# Altium footprint library 555.PcbLib: 1 footprints
Each footprint in its own frame and in the unit in brackets; x right, y up, seen from the top. Pads: shape width x height; smd on the part's side, far side on the other; paste and mask are expansions set on the pad; w line width, h text height; cw(c..) or ccw(c..) is an arc to the next point about the centre after c.
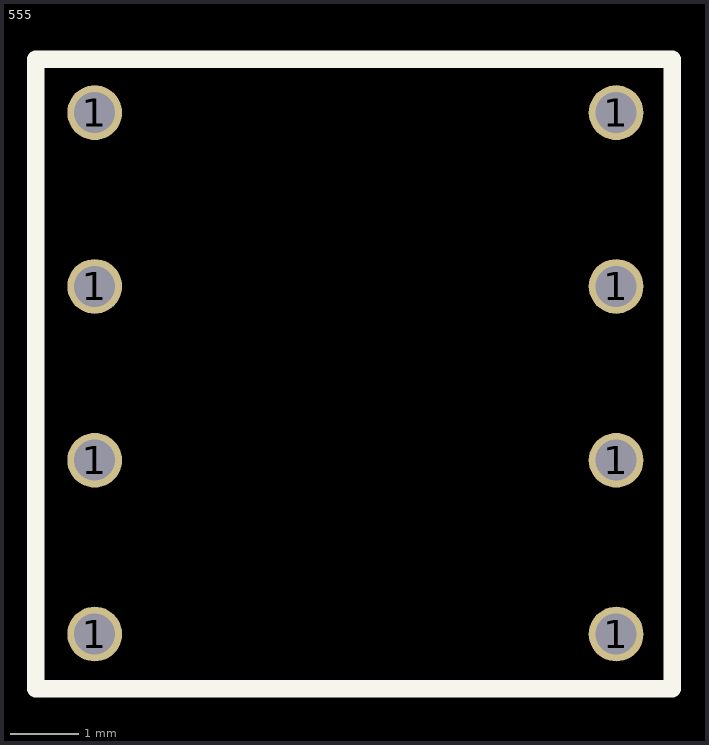
[diagram p0: the footprint, top view; thin cyan lines are the x and y axes]

## 555 [mm]
pads (8):
  round 0.8 hole 0.6: 1(-1234.44,-1231.9) 1(-1234.44,-1229.36) 1(-1234.44,-1226.82) 1(-1234.44,-1224.28) 1(-1226.82,-1231.9) 1(-1226.82,-1229.36) 1(-1226.82,-1226.82) 1(-1226.82,-1224.28)
Top Overlay:
  lines w0.254: -1235.3,-1232.7 -1226,-1232.7 -1226,-1223.5 -1235.3,-1223.5 -1235.3,-1232.7